# EAGLE library part 73725 (library EXCISS)
73725-0110BLF USB 2.0 Connector, Type A, Receptacle, Through Hole, 30u GXT Contact, 4 Pins, Back Shield and Hold-Down with Tin Plating, 1.6mm PCB, White HSG, Tube packing Links Product Drawing <http://cdn.amphenol-icc.com/media/wysiwyg/files/drawing/73725.pdf> Product Drawing <http://cdn.amphenol-icc.com/media/wysiwyg/files/documentation/gs-12-095.pdf> Product Specification <http://cdn.amphenol-icc.com/media/wysiwyg/files/documentation/customerpresentation/usb2_productpresentation.pdf> Product Website <http://www.amphenol-icc.com/usb-737250110blf.html>
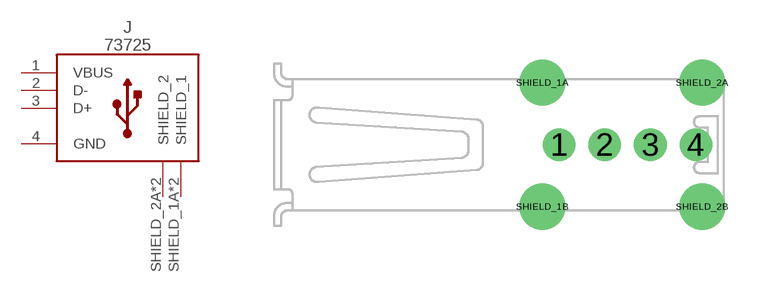
[diagram p6: symbol with the pads of 73725-0110BLF; footprint 73725-0110BLF]

Designator prefix J

## 737250110BLF  [73725-0110BLF]
1  VBUS
2  D-
3  D+
4  GND
SHIELD_1A  SHIELD_1  pas
SHIELD_1B  SHIELD_1  pas
SHIELD_2A  SHIELD_2  pas
SHIELD_2B  SHIELD_2  pas

## Footprint 73725-0110BLF (pad centres in mm)
drill 0.92: 1 12.49,0; 2 14.49,0; 3 16.49,0; 4 18.49,0
drill 1.35: SHIELD_1A 11.76,2.72; SHIELD_1B 11.76,-2.72; SHIELD_2A 18.76,2.72; SHIELD_2B 18.76,-2.72